# Altium footprint library Capacitors.PcbLib: 81 footprints (part 2 of 6)
Each footprint in its own frame and in the unit in brackets; x right, y up, seen from the top. Pads: shape width x height; smd on the part's side, far side on the other; paste and mask are expansions set on the pad; w line width, h text height; cw(c..) or ccw(c..) is an arc to the next point about the centre after c.
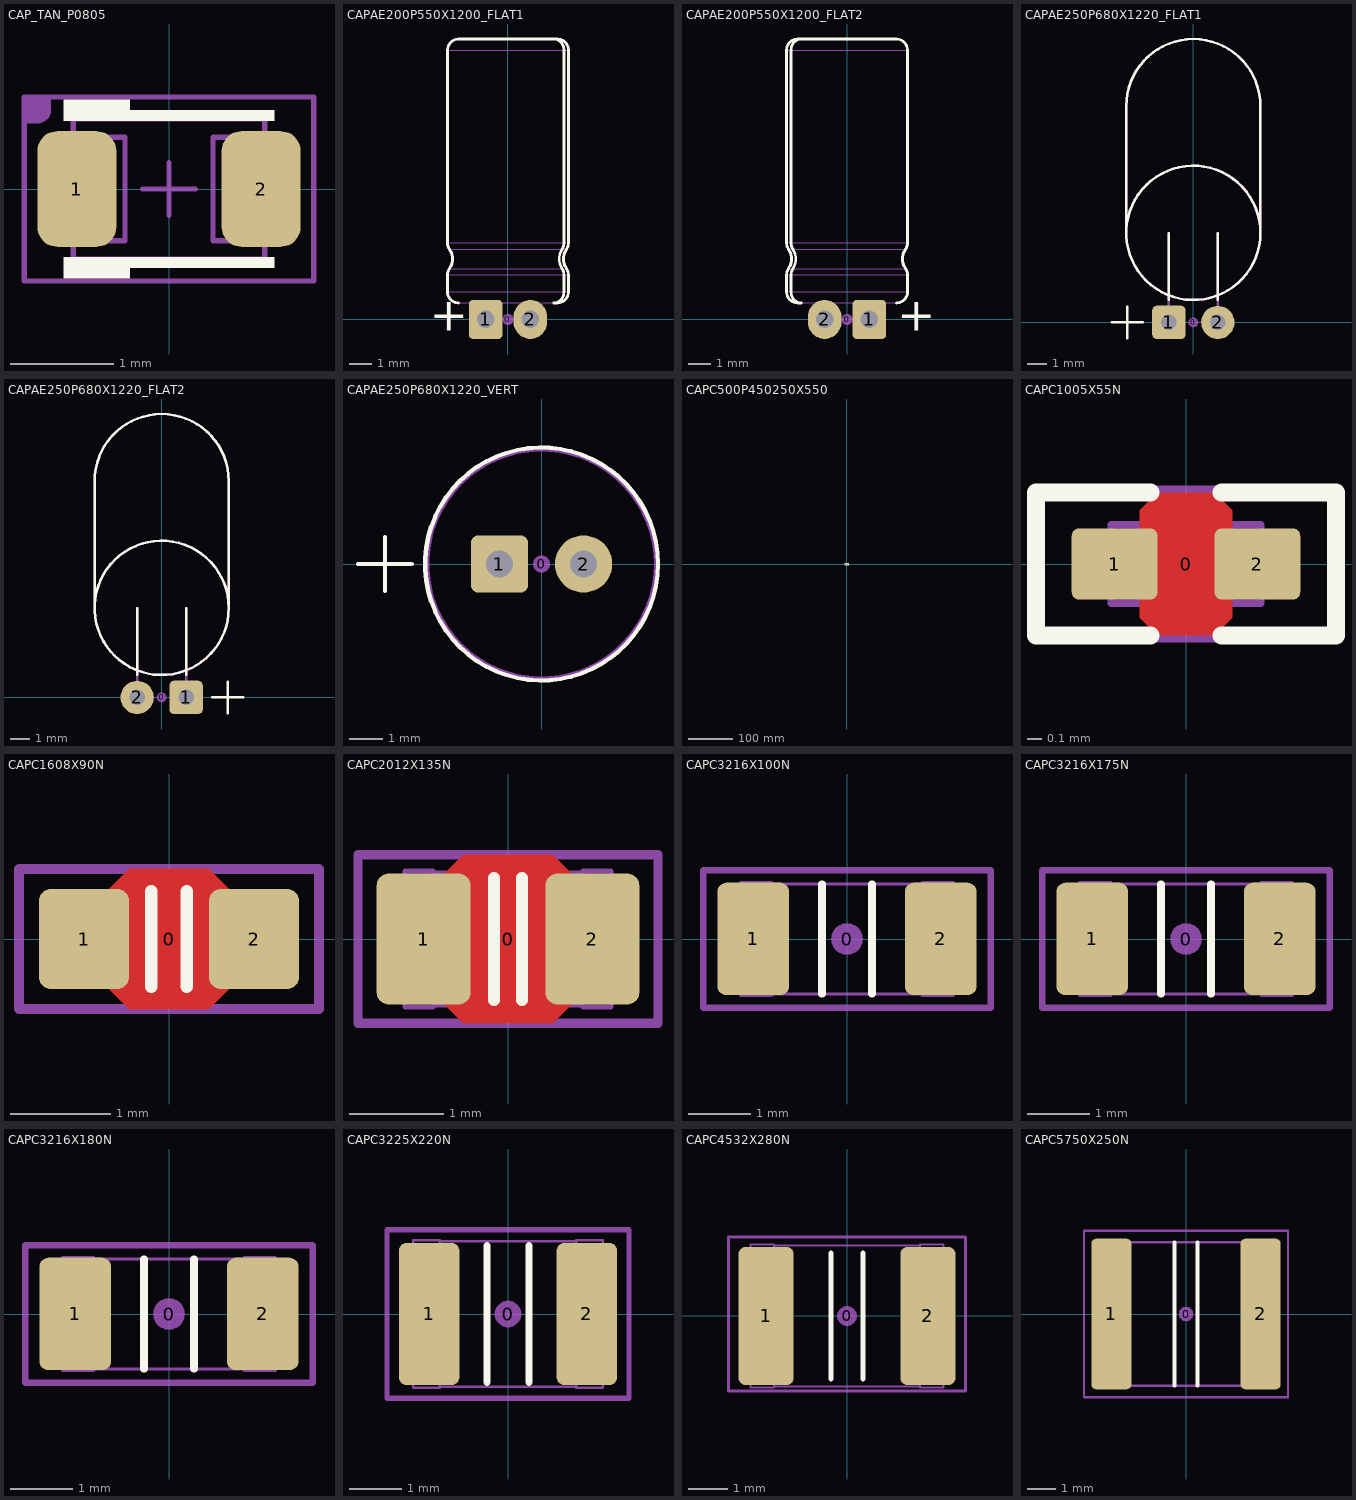
[diagram p1: the footprints below, top view; thin cyan lines are the x and y axes]

## CAP_TAN_P0805 [mil]
height 59.06
pads (2):
  rrect50% 30x44 smd: 1(-35,0) 2(35,0)
Top Overlay:
  region: 40,-30 -15,-30 -15,-34 -40,-34 -40,-26 40,-26
  region: 40,26 -40,26 -40,34 -15,34 -15,30 40,30
Mechanical 13:
  lines w2: -10,0 10,0 ; 0,-10 0,10 ; -40.35,-19.68 -40.35,19.68 -16.73,19.68 -16.73,-19.68 -40.35,-19.68 ; -36.42,-26.57 36.42,-26.57 36.42,26.57 -36.42,26.57 -36.42,-26.57 ; 16.73,-19.68 16.73,19.68 40.35,19.68 40.35,-19.68 16.73,-19.68
Mechanical 14:
  region: -55,35 -45,35 -45,30 -45,29.01 -45.76,27.17 -47.17,25.76 -49.01,25 -50,25 -55,25
  lines w2: -55,-35 -55,35 55,35 55,-35 -55,-35
  text ".Designator" at -30,-20 h80
3D body "CAPMP2012X150N.STEP": height 59.06, standoff 0, extent -40.35,-26.57 40.36,26.58

## CAPAE200P550X1200_FLAT1 [mil]
height 216.54
pads (3):
  round 20 on Mech15: 0(0,0)
  rrect25% 60x70 hole 31.5: 1(-40,0)
  oval 60x70 hole 31.5: 2(40,0)
Top Overlay:
  lines w5: -88.58,29.53 cw(c-88.58,49.25) -108.31,49.25 -108.31,79.64 cw(c-88.58,79.64) -104.79,90.88 ccw(c-129.92,108.31) -104.79,125.74 cw(c-88.58,136.98) -108.31,136.98 -108.31,482.32 cw(c-88.58,482.32) -88.58,502.05 81.84,502.05 cw(c81.06,483.05) 100.06,482.32 100.06,136.98 cw(c79.2,136.92) 96.81,125.74 ccw(c124.34,108.31) 96.81,90.88 cw(c79.2,79.7) 100.06,79.64 100.06,49.25 cw(c81.06,48.53) 81.84,29.53 ; 82.99,29.57 88.58,29.57 ccw(c88.58,49.25) 108.27,49.25 108.27,79.64 ccw(c88.58,79.64) 104.76,90.86 cw(c129.92,108.31) 104.76,125.76 ccw(c88.58,136.98) 108.27,136.98 108.27,482.32 ccw(c88.58,482.32) 88.58,502.01 82.99,502.01
  text "+" at -140,-20 h60
Mechanical 13:
  lines w1.97: -49.21,19.68 -29.53,19.68 ; -49.21,29.53 -49.21,0 ccw(c-39.37,0) -29.53,0 -29.53,29.53 ; 29.53,19.68 49.21,19.68 ; 29.53,29.53 29.53,0 ccw(c39.37,0) 49.21,0 49.21,29.53 ; 82.99,29.57 88.58,29.57 ccw(c88.58,49.25) 108.27,49.25 ; 82.99,502.01 88.58,502.01 cw(c88.58,482.32) 108.27,482.32 ; -108.31,49.25 ccw(c-88.58,49.25) -88.58,29.53 81.84,29.53 ccw(c81.06,48.53) 100.06,49.25 100.06,79.64 ccw(c79.2,79.7) 96.81,90.88 ; -108.31,49.25 -108.31,79.64 ; -108.31,49.25 108.27,49.25 ; -108.31,79.64 cw(c-88.58,79.64) -104.79,90.88 ; -108.31,79.64 108.27,79.64 ; -108.31,136.98 ccw(c-88.58,136.98) -104.79,125.74 ; -108.31,136.98 -108.31,482.32 ; -108.31,136.98 108.27,136.98 ; -108.31,482.32 cw(c-88.58,482.32) -88.58,502.05 81.84,502.05 cw(c81.06,483.05) 100.06,482.32 100.06,136.98 cw(c79.2,136.92) 96.81,125.74 ; -108.31,482.32 108.27,482.32 ; -104.79,90.88 ccw(c-129.92,108.31) -104.79,125.74 ; -104.79,90.88 96.81,90.88 ; -104.79,125.74 96.81,125.74 ; 96.81,90.88 cw(c124.34,108.31) 96.81,125.74 ; 96.81,90.88 104.76,90.86 ; 96.81,125.74 104.76,125.76 ; 104.76,90.86 cw(c88.58,79.64) 108.27,79.64 ; 104.76,90.86 cw(c129.92,108.31) 104.76,125.76 ; 104.76,125.76 ccw(c88.58,136.98) 108.27,136.98 ; 108.27,49.25 108.27,79.64 ; 108.27,136.98 108.27,482.32
3D body "CAPAE200P550X1200_FLAT1.STEP": height 215.69, standoff -70, extent -107.37,-9.82 107.35,502.05

## CAPAE200P550X1200_FLAT2 [mil]
height 216.54
pads (3):
  round 20 on Mech15: 0(0,0)
  rrect25% 60x70 hole 31.5: 1(40,0)
  oval 60x70 hole 31.5: 2(-40,0)
Top Overlay:
  lines w5: -82.99,29.57 -88.58,29.57 cw(c-88.58,49.25) -108.27,49.25 -108.27,79.64 cw(c-88.58,79.64) -104.76,90.86 ccw(c-129.92,108.31) -104.76,125.76 cw(c-88.58,136.98) -108.27,136.98 -108.27,482.32 cw(c-88.58,482.32) -88.58,502.01 -82.99,502.01 ; -81.84,29.53 cw(c-81.06,48.53) -100.06,49.25 -100.06,79.64 cw(c-79.2,79.7) -96.81,90.88 ccw(c-124.34,108.31) -96.81,125.74 cw(c-79.2,136.92) -100.06,136.98 -100.06,482.32 cw(c-81.06,483.05) -81.84,502.05 88.58,502.05 cw(c88.58,482.32) 108.31,482.32 108.31,136.98 cw(c88.58,136.98) 104.79,125.74 ccw(c129.92,108.31) 104.79,90.88 cw(c88.58,79.64) 108.31,79.64 108.31,49.25 cw(c88.58,49.25) 88.58,29.53
  text "+" at 90,-20 h60
Mechanical 13:
  lines w1.97: -82.99,29.57 -88.58,29.57 cw(c-88.58,49.25) -108.27,49.25 ; -82.99,502.01 -88.58,502.01 ccw(c-88.58,482.32) -108.27,482.32 ; -49.21,19.68 -29.53,19.68 ; -49.21,29.53 -49.21,0 ccw(c-39.37,0) -29.53,0 -29.53,29.53 ; 29.53,19.68 49.21,19.68 ; 29.53,29.53 29.53,0 ccw(c39.37,0) 49.21,0 49.21,29.53 ; -108.27,49.25 108.31,49.25 ; -108.27,49.25 -108.27,79.64 ; -108.27,79.64 cw(c-88.58,79.64) -104.76,90.86 ; -108.27,79.64 108.31,79.64 ; -108.27,136.98 ccw(c-88.58,136.98) -104.76,125.76 ; -108.27,136.98 108.31,136.98 ; -108.27,136.98 -108.27,482.32 ; -108.27,482.32 108.31,482.32 ; -104.76,90.86 ccw(c-129.92,108.31) -104.76,125.76 ; -104.76,90.86 -96.81,90.88 ; -104.76,125.76 -96.81,125.74 ; -96.81,90.88 ccw(c-124.34,108.31) -96.81,125.74 ; -96.81,90.88 ccw(c-79.2,79.7) -100.06,79.64 -100.06,49.25 ccw(c-81.06,48.53) -81.84,29.53 88.58,29.53 ccw(c88.58,49.25) 108.31,49.25 ; -96.81,90.88 104.79,90.88 ; -96.81,125.74 cw(c-79.2,136.92) -100.06,136.98 -100.06,482.32 cw(c-81.06,483.05) -81.84,502.05 88.58,502.05 cw(c88.58,482.32) 108.31,482.32 ; -96.81,125.74 104.79,125.74 ; 104.79,90.88 cw(c129.92,108.31) 104.79,125.74 ; 104.79,90.88 cw(c88.58,79.64) 108.31,79.64 ; 104.79,125.74 ccw(c88.58,136.98) 108.31,136.98 ; 108.31,49.25 108.31,79.64 ; 108.31,136.98 108.31,482.32
3D body "CAPAE200P550X1200_FLAT2.STEP": height 215.69, standoff -70, extent -107.33,-9.82 107.39,502.05

## CAPAE250P680X1220_FLAT1 [mm]
height 6.8
pads (3):
  round 0.508 on Mech15: 0(0,0)
  rrect25% 1.7x1.7 hole 0.8: 1(-1.25,0)
  round 1.7 hole 0.8: 2(1.25,0)
Top Overlay:
  circle w0.127: c0,4.572 r3.429
  lines w0.127: -4.18,0 -2.58,0 ; -3.429,4.572 -3.429,11.049 cw(c0,11.049) 3.429,11.049 3.429,4.572 ; -3.38,-0.8 -3.38,0.8 ; -1.25,1.143 -1.25,4.552 ; 1.25,1.143 1.25,4.552
Mechanical 13:
  circle w0.127: c0,4.572 r3.429
  lines w0.127: -3.429,4.572 -3.429,11.049 cw(c0,11.049) 3.429,11.049 3.429,4.572 ; -1.25,0 -1.25,4.552 ; 1.25,0 1.25,4.552
3D body "CAPAE250P680X1220_FLAT1.STEP": height 6.77, standoff -1.78, extent -3.372,-0.249 3.371,12.952

## CAPAE250P680X1220_FLAT2 [mm]
height 6.8
pads (3):
  round 0.508 on Mech15: 0(0,0)
  rrect25% 1.7x1.7 hole 0.8: 1(1.25,0)
  round 1.7 hole 0.8: 2(-1.25,0)
Top Overlay:
  circle w0.127: c0,4.572 r3.429
  lines w0.127: -3.429,4.572 -3.429,11.049 cw(c0,11.049) 3.429,11.049 3.429,4.572 ; -1.25,1.143 -1.25,4.552 ; 1.25,1.143 1.25,4.552 ; 2.58,0 4.18,0 ; 3.38,-0.8 3.38,0.8
Mechanical 13:
  circle w0.127: c0,4.572 r3.429
  lines w0.127: -3.429,4.572 -3.429,11.049 cw(c0,11.049) 3.429,11.049 3.429,4.572 ; -1.25,0 -1.25,4.552 ; 1.25,0 1.25,4.552
3D body "CAPAE250P680X1220_FLAT2.STEP": height 6.77, standoff -1.78, extent -3.371,-0.249 3.372,12.952

## CAPAE250P680X1220_VERT [mm]
height 12.2
pads (3):
  round 0.508 on Mech15: 0(0,0)
  rrect25% 1.7x1.7 hole 0.8: 1(-1.25,0)
  round 1.7 hole 0.8: 2(1.25,0)
Top Overlay:
  circle w0.127: c0,0 r3.459
  lines w0.127: -5.45,0 -3.85,0 ; -4.65,-0.8 -4.65,0.8
Mechanical 13:
  circle w0.127: c0,0 r3.4
3D body "CAPAE250P680X1220_VERT.STEP": height 12.2, standoff -1.78, extent -3.372,-3.372 3.371,3.372

## CAPC500P450250X550 [mm] "TDK FK24 radial ceramic capacitor"
height 5.5
pads (3):
  round 0.508 on Mech15: 0(0,0)
  rrect25% 1.905x1.905 hole 0.8: 1(-2.5,0)
  round 1.905 hole 0.8: 2(2.5,0)
Top Overlay:
  lines w0.127: -3.81,-1.27 -3.81,1.27 3.81,1.27 3.81,-1.27 -3.81,-1.27
Mechanical 13:
  lines w0.127: -2.5,-0.3 cw(c-2.5,0) -2.5,0.3 ; -2.25,-0.523 -2.248,-0.511 -2.24,-0.497 -2.227,-0.48 -2.21,-0.461 -2.186,-0.439 -2.157,-0.415 -2.122,-0.387 -2.083,-0.357 -2.046,-0.327 -2.006,-0.292 -1.995,-0.281 -1.983,-0.268 -1.972,-0.254 -1.962,-0.238 -1.958,-0.229 -1.955,-0.218 -1.954,-0.211 -1.953,-0.203 ; -2.25,0.523 cw(c-3.279,-0.727) -1.953,0.203 ; -2.236,-0.718 cw(c-1.896,-0.22) -2.5,-0.217 -2.5,0.217 cw(c-1.896,0.221) -2.232,0.723 -2.23,0.724 -2.206,0.741 ; -2.232,-0.723 -2.225,-0.727 -2.205,-0.742 ; 2.205,0.742 2.225,0.727 2.232,0.723 ; 2.206,-0.741 2.23,-0.724 2.232,-0.723 ccw(c1.896,-0.221) 2.5,-0.217 2.5,0.217 ccw(c1.896,0.22) 2.236,0.718 ; 2.25,-0.523 2.243,-0.502 2.225,-0.477 2.187,-0.44 2.134,-0.397 2.073,-0.349 2.007,-0.293 1.986,-0.271 1.967,-0.246 1.956,-0.223 1.953,-0.203 ; 2.25,0.523 2.24,0.497 2.21,0.461 2.157,0.415 2.083,0.357 2.046,0.327 2.006,0.292 1.983,0.268 1.962,0.238 1.955,0.218 1.953,0.203 ; 2.5,-0.3 ccw(c2.5,0) 2.5,0.3 ; -1.953,-0.203 1.953,-0.203 ; -1.953,-0.203 -1.953,0.203 ; -1.953,0.203 1.953,0.203 ; -1.8,-1.003 cw(c-1.777,-0.913) -1.867,-0.935 cw(c9.111,-1.292) -1.819,-0.203 -1.819,0.203 ccw(c-168.083,-10.401) -1.867,0.935 cw(c-1.777,0.912) -1.8,1.003 ; -1.8,-1.003 cw(c-1.8,-0.553) -2.25,-0.553 -2.25,0.553 cw(c-1.8,0.553) -1.8,1.003 ; -1.8,-1.003 1.8,-1.003 ; -1.8,1.003 1.8,1.003 ; 1.8,-1.003 ccw(c1.777,-0.912) 1.867,-0.935 cw(c168.269,10.414) 1.819,-0.203 1.819,0.203 ccw(c-9.111,1.292) 1.867,0.935 ccw(c1.777,0.913) 1.8,1.003 ; 1.8,-1.003 ccw(c1.8,-0.553) 2.25,-0.553 2.25,0.553 ccw(c1.8,0.553) 1.8,1.003 ; 1.953,-0.203 1.953,0.203
3D body "TDK FK24 ceramic capacitor.STEP": height 5.47, standoff -2.54, extent -2.797,-1.003 2.798,1.003

## CAPC1005X55N [mm] "Chip Capacitor, Body 1.0x0.5mm, EIA 0402, IPC Medium Density"
height 0.55
pads (3):
  round 0.2 on Mech15: 0(0,0)
  rrect20% 0.6x0.5 smd: 1(-0.5,0) 2(0.5,0)
Top Layer:
  pour cut-out: -0.325,0.375 -0.2,0.5 0.2,0.5 0.325,0.375 0.325,-0.375 0.2,-0.5 -0.2,-0.5 -0.325,-0.375
Top Overlay:
  lines w0.127: -0.25,-0.5 -1.05,-0.5 -1.05,0.5 -0.25,0.5 ; 0.25,-0.5 1.05,-0.5 1.05,0.5 0.25,0.5
Mechanical 13:
  lines w0.05: -0.325,-0.255 0.325,-0.255 ; -0.325,0.255 0.325,0.255 ; -0.525,-0.275 -0.525,0.275 -0.325,0.275 -0.325,-0.275 -0.525,-0.275 ; 0.325,-0.275 0.525,-0.275 0.525,0.275 0.325,0.275 0.325,-0.275
Mechanical 15:
  lines w0.1: -1.05,-0.5 -1.05,0.5 1.05,0.5 1.05,-0.5 -1.05,-0.5
3D body "CAP 0402 (1005 metric).STEP": height 0.55, standoff 0, extent -0.525,-0.275 0.525,0.275

## CAPC1608X90N [mm] "Chip Capacitor, Body 1.6x0.8mm, EIA 0603, IPC Medium Density"
height 0.9
pads (3):
  round 0.254 on Mech15: 0(0,0)
  rrect25% 0.9x1 smd: 1(-0.85,0) 2(0.85,0)
Top Layer:
  pour cut-out: -0.6,0.5 -0.4,0.7 0.4,0.7 0.6,0.5 0.6,-0.5 0.4,-0.7 -0.4,-0.7 -0.6,-0.5
Top Overlay:
  lines w0.127: -0.178,-0.476 -0.178,0.476 ; 0.178,-0.476 0.178,0.476
Mechanical 13:
  lines w0.05: -0.55,-0.43 0.55,-0.43 ; -0.55,0.43 0.55,0.43 ; -0.85,-0.45 -0.55,-0.45 -0.55,0.45 -0.85,0.45 -0.85,-0.45 ; 0.55,-0.45 0.85,-0.45 0.85,0.45 0.55,0.45 0.55,-0.45
Mechanical 15:
  lines w0.1: -1.5,-0.7 1.5,-0.7 1.5,0.7 -1.5,0.7 -1.5,-0.7
3D body "CAP_0603.STEP": height 0.89, standoff -0.01, extent -0.85,-0.45 0.85,0.45

## CAPC2012X135N [mm] "Chip Capacitor, Body 2.0x1.2mm, EIA 0805, IPC Medium Density"
height 1.35
pads (3):
  round 0.254 on Mech15: 0(0,0)
  rrect25% 1x1.4 smd: 1(-0.9,0) 2(0.9,0)
Top Layer:
  pour cut-out: -0.675,0.7 -0.475,0.9 0.475,0.9 0.675,0.7 0.675,-0.7 0.475,-0.9 -0.475,-0.9 -0.675,-0.7
Top Overlay:
  lines w0.127: -0.15,-0.651 -0.15,0.651 ; 0.15,-0.651 0.15,0.651
Mechanical 13:
  lines w0.05: -0.8,-0.705 0.8,-0.705 ; -0.8,0.705 0.8,0.705 ; -1.1,-0.725 -0.8,-0.725 -0.8,0.725 -1.1,0.725 -1.1,-0.725 ; 0.8,-0.725 0.8,0.725 1.1,0.725 1.1,-0.725 0.8,-0.725
Mechanical 15:
  lines w0.1: -1.6,-0.9 1.6,-0.9 1.6,0.9 -1.6,0.9 -1.6,-0.9
3D body "CAP_0805.STEP": height 1.34, standoff -0.01, extent -1.1,-0.725 1.1,0.725

## CAPC3216X100N [mm] "Chip Capacitor, Body 3.2x1.6mm, 1.0mm H, EIA 1206, IPC Medium Density"
height 1
pads (3):
  round 0.508 on Mech15: 0(0,0)
  rrect25% 1.15x1.8 smd: 1(-1.5,0) 2(1.5,0)
Top Overlay:
  lines w0.127: -0.4,-0.876 -0.4,0.876 ; 0.4,-0.876 0.4,0.876
Mechanical 13:
  lines w0.05: -1.2,-0.88 1.2,-0.88 ; -1.2,0.88 1.2,0.88 ; -1.7,-0.9 -1.2,-0.9 -1.2,0.9 -1.7,0.9 -1.7,-0.9 ; 1.2,-0.9 1.7,-0.9 1.7,0.9 1.2,0.9 1.2,-0.9
Mechanical 15:
  lines w0.1: -2.3,-1.1 -2.3,1.1 2.3,1.1 2.3,-1.1 -2.3,-1.1
3D body "CAPC3216X100N - 1206 (3216 metric).STEP": height 1, standoff 0, extent -1.7,-0.9 1.7,0.9

## CAPC3216X175N [mm] "Chip Capacitor, Body 3.2x1.6mm, 1.75mm H, EIA 1206, IPC Medium Density"
height 1.75
pads (3):
  round 0.508 on Mech15: 0(0,0)
  rrect25% 1.15x1.8 smd: 1(-1.5,0) 2(1.5,0)
Top Overlay:
  lines w0.127: -0.4,-0.876 -0.4,0.876 ; 0.4,-0.876 0.4,0.876
Mechanical 13:
  lines w0.05: -1.2,-0.88 1.2,-0.88 ; -1.2,0.88 1.2,0.88 ; -1.7,-0.9 -1.7,0.9 -1.2,0.9 -1.2,-0.9 -1.7,-0.9 ; 1.2,-0.9 1.2,0.9 1.7,0.9 1.7,-0.9 1.2,-0.9
Mechanical 15:
  lines w0.1: -2.3,-1.1 2.3,-1.1 2.3,1.1 -2.3,1.1 -2.3,-1.1
3D body "CAPC3216X175N - 1206 (3216 metric).STEP": height 1.75, standoff 0, extent -1.7,-0.9 1.7,0.9

## CAPC3216X180N [mm] "Chip Capacitor, Body 3.2x1.6mm, 1.8mm H, EIA 1206, IPC Medium Density"
height 1.8
pads (3):
  round 0.508 on Mech15: 0(0,0)
  rrect25% 1.15x1.8 smd: 1(-1.5,0) 2(1.5,0)
Top Overlay:
  lines w0.127: -0.4,-0.876 -0.4,0.876 ; 0.4,-0.876 0.4,0.876
Mechanical 13:
  lines w0.05: -1.2,-0.88 1.2,-0.88 ; -1.2,0.88 1.2,0.88 ; -1.7,-0.9 -1.7,0.9 -1.2,0.9 -1.2,-0.9 -1.7,-0.9 ; 1.2,-0.9 1.2,0.9 1.7,0.9 1.7,-0.9 1.2,-0.9
Mechanical 15:
  lines w0.1: -2.3,-1.1 2.3,-1.1 2.3,1.1 -2.3,1.1 -2.3,-1.1
3D body "CAPC3216X180N - 1206 (3216 metric).STEP": height 1.8, standoff 0, extent -1.7,-0.9 1.7,0.9

## CAPC3225X220N [mm] "Chip Capacitor, Body 3.2x2.5mm, EIA 1210, IPC Medium Density"
height 2.2
pads (3):
  round 0.508 on Mech15: 0(0,0)
  rrect25% 1.15x2.7 smd: 1(-1.5,0) 2(1.5,0)
Top Overlay:
  lines w0.127: -0.4,-1.3 -0.4,1.3 ; 0.4,-1.3 0.4,1.3
Mechanical 13:
  lines w0.05: -1.3,-1.38 1.3,-1.38 ; -1.3,1.38 1.3,1.38 ; -1.8,-1.4 -1.8,1.4 -1.3,1.4 -1.3,-1.4 -1.8,-1.4 ; 1.3,-1.4 1.8,-1.4 1.8,1.4 1.3,1.4 1.3,-1.4
Mechanical 15:
  lines w0.1: -2.3,-1.6 2.3,-1.6 2.3,1.6 -2.3,1.6 -2.3,-1.6
3D body "CAP_1210.STEP": height 2.19, standoff -0.01, extent -1.8,-1.4 1.8,1.4

## CAPC4532X280N [mm] "Chip Capacitor, Body 4.5x3.2mm, 1812, IPC Medium Density"
height 2.8
pads (3):
  round 0.508 on Mech15: 0(0,0)
  rrect25% 1.4x3.5 smd: 1(-2.05,0) 2(2.05,0)
Top Overlay:
  lines w0.127: -0.4,-1.6 -0.4,1.6 ; 0.4,-1.6 0.4,1.6
Mechanical 13:
  lines w0.05: -1.85,-1.791 1.85,-1.791 ; -1.85,1.791 1.85,1.791 ; -2.45,-1.811 -2.45,1.811 -1.85,1.811 -1.85,-1.811 -2.45,-1.811 ; 1.85,-1.811 2.45,-1.811 2.45,1.811 1.85,1.811 1.85,-1.811
Mechanical 15:
  lines w0.076: -3,-1.9 -3,2 3,2 3,-1.9 -3,-1.9
3D body "CAP_1812.STEP": height 2.79, standoff -0.01, extent -2.45,-1.8 2.45,1.8

## CAPC5750X250N [mm] "Chip Capacitor, Body 5.7x5.0mm, 2220, IPC Medium Density"
height 2.5
pads (3):
  round 0.508 on Mech15: 0(0,0)
  rrect25% 1.4x5.25 smd: 1(-2.6,0) 2(2.6,0)
Top Overlay:
  lines w0.127: -0.4,-2.5 -0.4,2.5 ; 0.4,-2.5 0.4,2.5
Mechanical 13:
  lines w0.076: -2.85,-2.5 -2.85,2.5 2.85,2.5 2.85,-2.5 -2.85,-2.5
Mechanical 15:
  lines w0.076: -3.55,-2.9 3.55,-2.9 3.55,2.9 -3.55,2.9 -3.55,-2.9
3D body "CAP_2220.STEP": height 2.49, standoff -0.01, extent -3.05,-2.7 3.05,2.7